# EAGLE library part 8224 (library micro-intel)
MICROCOMPUTER/PERIPHERAL DEVICE
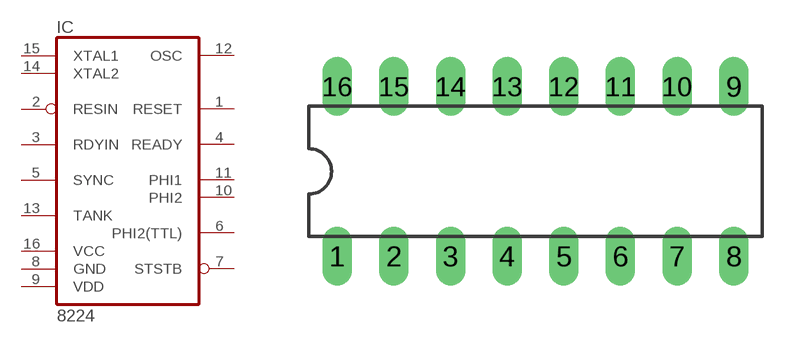
[diagram p36: symbol with the pads of DIL16; footprint DIL16]

Designator prefix IC

## 8224 (OC_FARNELL: unknown; OC_NEWARK: unknown)  [DIL16]
1  RESET  out
2  RESIN  in
3  RDYIN  in
4  READY  out
5  SYNC  in
6  PHI2(TTL)  out
7  STSTB  out
8  GND  pwr
9  VDD  pwr
10  PHI2  out
11  PHI1  out
12  OSC  out
13  TANK  in
14  XTAL2  in
15  XTAL1  in
16  VCC  pwr

## Footprint DIL16 (pad centres in mm)
Dual In Line Package
drill 0.813 long: 1 -8.89,-3.81; 2 -6.35,-3.81; 3 -3.81,-3.81; 4 -1.27,-3.81; 5 1.27,-3.81; 6 3.81,-3.81; 7 6.35,-3.81; 8 8.89,-3.81; 9 8.89,3.81; 10 6.35,3.81; 11 3.81,3.81; 12 1.27,3.81; 13 -1.27,3.81; 14 -3.81,3.81; 15 -6.35,3.81; 16 -8.89,3.81